# EAGLE library part SI8641-? (library kiks-ic)
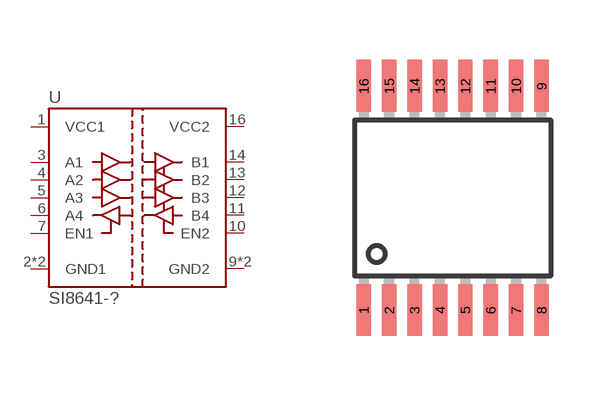
[diagram p12: symbol with the pads of SSOP16-0.635; footprint SSOP16-0.635]

Designator prefix U

## SI8641-IU  [SSOP16-0.635]
1  VCC1
2  GND1
3  A1  in
4  A2  in
5  A3  in
6  A4  out
7  EN1  in
8  GND1
9  GND2
10  EN2  in
11  B4  in
12  B3  out
13  B2  out
14  B1  out
15  GND2
16  VCC2

## Footprint SSOP16-0.635 (pad centres in mm)
smd 0.36 x 1.3: 1 -2.225,-2.8; 2 -1.587,-2.8; 3 -0.953,-2.8; 4 -0.318,-2.8; 5 0.318,-2.8; 6 0.953,-2.8; 7 1.587,-2.8; 8 2.225,-2.8; 9 2.225,2.8; 10 1.587,2.8; 11 0.953,2.8; 12 0.318,2.8; 13 -0.318,2.8; 14 -0.953,2.8; 15 -1.587,2.8; 16 -2.225,2.8